# Altium schematic symbol library SCH - MISC - SERIAL_NR.SCHLIB: 1 symbol
Pins are listed as number, name and electrical type; pins without a type are passive.

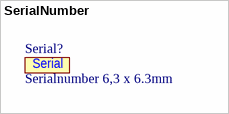
[diagram p0: symbol SerialNumber]

## SerialNumber
designator Serial?, comment Serialnumber 6,3 x 6.3mm  (no BOM)
Created: 2018_09_18_AGeiger; Value: Serialnumber 6,3 x 6.3mm
text: Serial